# Altium footprint library TDA2822M.PcbLib: 1 footprints
Each footprint in its own frame and in the unit in brackets; x right, y up, seen from the top. Pads: shape width x height; smd on the part's side, far side on the other; paste and mask are expansions set on the pad; w line width, h text height; cw(c..) or ccw(c..) is an arc to the next point about the centre after c.
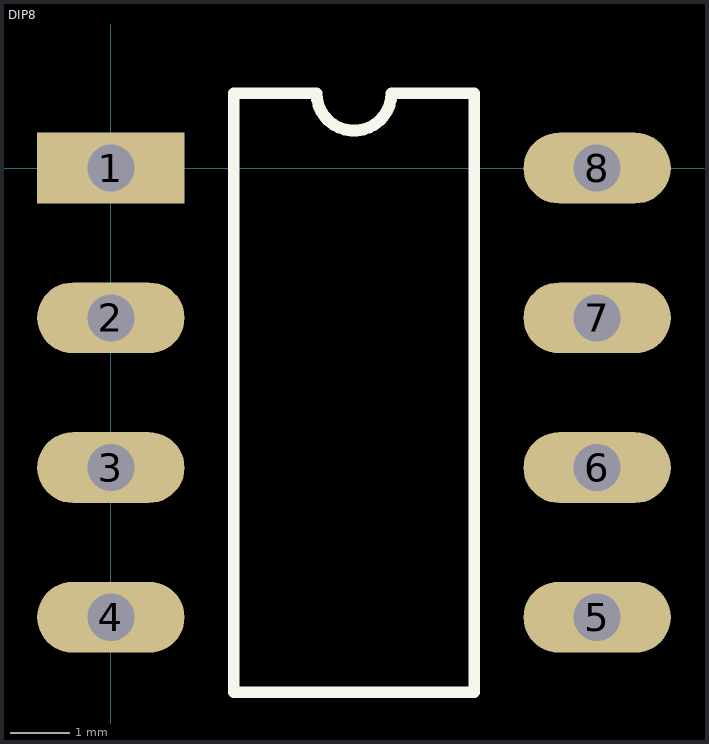
[diagram p0: the footprint, top view; thin cyan lines are the x and y axes]

## DIP8 [mm]
pads (8):
  rect 2.5x1.2 hole 0.8: 1(0,0)
  oval 2.5x1.2 hole 0.8: 2(0,-2.54) 3(0,-5.08) 4(0,-7.62) 5(8.25,-7.62) 6(8.25,-5.08) 7(8.25,-2.54) 8(8.25,0)
Top Overlay:
  lines w0.2: 2.085,-8.89 6.165,-8.89 6.165,1.27 4.76,1.27 cw(c4.125,1.27) 3.49,1.27 2.085,1.27 2.085,-8.89
3D body "DIP8-1.STEP": height 4.9, standoff -2.71, extent -1.104,-9.3 9.305,1.7